# EAGLE library part CARROT_POTATO (library SafeBladeLib)
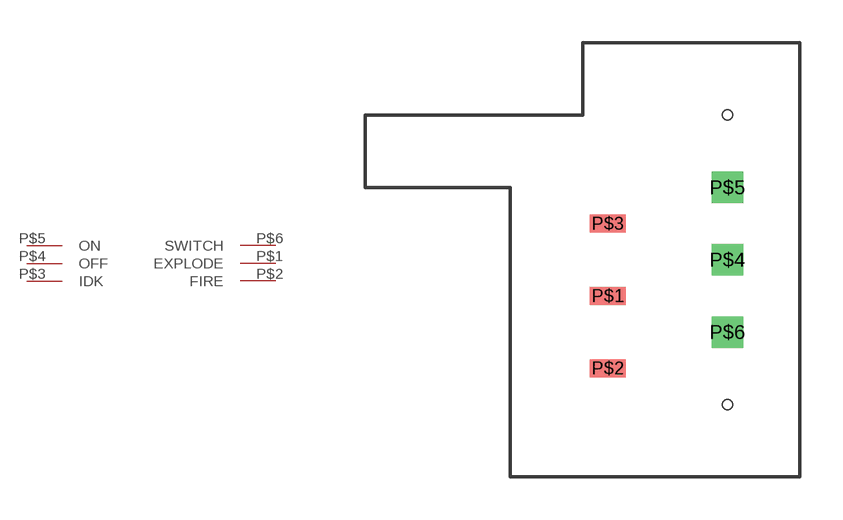
[diagram p2: symbol with the pads of POTATO; footprint POTATO]

Designator prefix -

## CARROT_POTATO  [POTATO]
P$1  EXPLODE
P$2  FIRE
P$3  IDK
P$4  OFF
P$5  ON
P$6  SWITCH

## Footprint POTATO (pad centres in mm)
smd 1.27 x 0.635: P$1 -1.651,-1.27; P$2 -1.651,-3.81; P$3 -1.651,1.27
drill 0.6 square: P$4 2.54,0; P$5 2.54,2.54; P$6 2.54,-2.54
hole 0.35 at 2.54,5.08
hole 0.35 at 2.54,-5.08